# EAGLE library part 1787056 (library con-phoenix-dmc)
TERM BLOCK HDR 12POS 90DEG 3.5MM
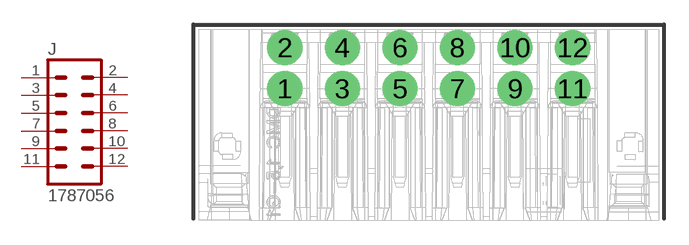
[diagram p1: symbol with the pads of 1787056; footprint 1787056]

Designator prefix J

## 1787056  [1787056]
1  1  pas
2  2  pas
3  3  pas
4  4  pas
5  5  pas
6  6  pas
7  7  pas
8  8  pas
9  9  pas
10  10  pas
11  11  pas
12  12  pas

## Footprint 1787056 (pad centres in mm)
TERM BLOCK HDR 12POS 90DEG 3.5MM
drill 1.422: 1 -8.75,0; 2 -8.75,2.5; 3 -5.25,0; 4 -5.25,2.5; 5 -1.75,0; 6 -1.75,2.5; 7 1.75,0; 8 1.75,2.5; 9 5.25,0; 10 5.25,2.5; 11 8.75,0; 12 8.75,2.5